# Altium footprint library Axial 25.4mm Pitch.PcbLib: 1 footprints
Each footprint in its own frame and in the unit in brackets; x right, y up, seen from the top. Pads: shape width x height; smd on the part's side, far side on the other; paste and mask are expansions set on the pad; w line width, h text height; cw(c..) or ccw(c..) is an arc to the next point about the centre after c.
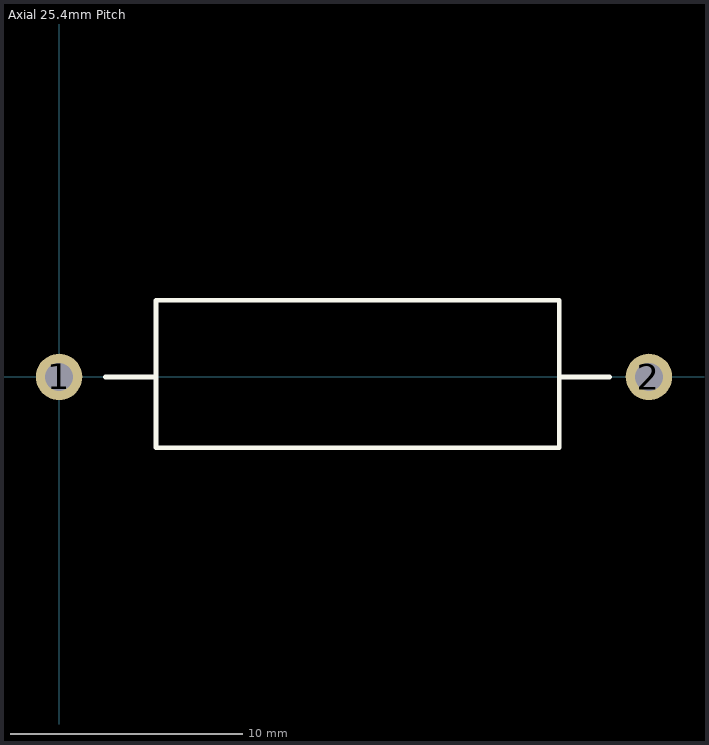
[diagram p0: the footprint, top view; thin cyan lines are the x and y axes]

## Axial 25.4mm Pitch [mm]
pads (2):
  round 2 hole 1.2: 1(0,0) 2(25.4,0)
Top Overlay:
  lines w0.2: 2,0 4.175,0 ; 21.536,0 23.711,0 ; 4.175,0 4.175,3.302 21.536,3.302 21.536,-3.048 4.175,-3.048 4.175,0